# Altium integrated library RET0805_RES-CAP_lib.IntLib: 234 symbols
Pins are listed as number, name and electrical type; pins without a type are passive.

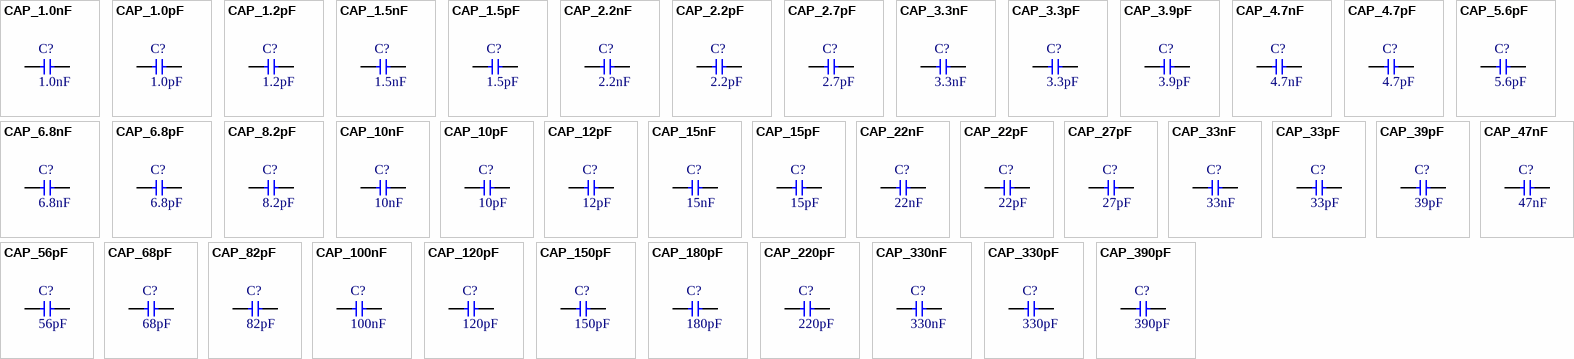
[diagram p0: symbols CAP_1.0nF to CAP_390pF]

## CAP_1.0nF
designator C?, comment 1.0nF
YAGEO Ceramic Capacitor; Voltage: 50; Tolerance: 10%; Characteristic: NPO; Supplier: RET 93-00-95
footprint FP_0805_CAP_060 (0805 kapacitás YAGEO 0.6 mm magas)
pins: 1, 2

## CAP_1.0pF
designator C?, comment 1.0pF
YAGEO Ceramic Capacitor; Voltage: 50; Tolerance: ±0,25pF; Characteristic: NPO; Supplier: RET 93-01-07
footprint FP_0805_CAP_060 (0805 kapacitás YAGEO 0.6 mm magas)
pins: 1, 2

## CAP_1.2pF
designator C?, comment 1.2pF
YAGEO Ceramic Capacitor; Voltage: 50; Tolerance: ±0,25pF; Characteristic: NPO; Supplier: RET 93-01-08
footprint FP_0805_CAP_060 (0805 kapacitás YAGEO 0.6 mm magas)
pins: 1, 2

## CAP_1.5nF
designator C?, comment 1.5nF
YAGEO Ceramic Capacitor; Voltage: 50; Tolerance: 10%; Characteristic: NPO; Supplier: RET 93-00-96
footprint FP_0805_CAP_060 (0805 kapacitás YAGEO 0.6 mm magas)
pins: 1, 2

## CAP_1.5pF
designator C?, comment 1.5pF
YAGEO Ceramic Capacitor; Voltage: 50; Tolerance: ±0,25pF; Characteristic: NPO; Supplier: RET 93-01-09
footprint FP_0805_CAP_060 (0805 kapacitás YAGEO 0.6 mm magas)
pins: 1, 2

## CAP_2.2nF
designator C?, comment 2.2nF
YAGEO Ceramic Capacitor; Voltage: 50; Tolerance: 10%; Characteristic: NPO; Supplier: RET 93-00-97
footprint FP_0805_CAP_060 (0805 kapacitás YAGEO 0.6 mm magas)
pins: 1, 2

## CAP_2.2pF
designator C?, comment 2.2pF
YAGEO Ceramic Capacitor; Voltage: 50; Tolerance: ±0,25pF; Characteristic: NPO; Supplier: RET 93-01-11
footprint FP_0805_CAP_060 (0805 kapacitás YAGEO 0.6 mm magas)
pins: 1, 2

## CAP_2.7pF
designator C?, comment 2.7pF
YAGEO Ceramic Capacitor; Voltage: 50; Tolerance: ±0,25pF; Characteristic: NPO; Supplier: RET 93-01-12
footprint FP_0805_CAP_060 (0805 kapacitás YAGEO 0.6 mm magas)
pins: 1, 2

## CAP_3.3nF
designator C?, comment 3.3nF
YAGEO Ceramic Capacitor; Voltage: 50; Tolerance: 10%; Characteristic: NPO; Supplier: RET 93-00-98
footprint FP_0805_CAP_060 (0805 kapacitás YAGEO 0.6 mm magas)
pins: 1, 2

## CAP_3.3pF
designator C?, comment 3.3pF
YAGEO Ceramic Capacitor; Voltage: 50; Tolerance: ±0,25pF; Characteristic: NPO; Supplier: RET 93-01-13
footprint FP_0805_CAP_060 (0805 kapacitás YAGEO 0.6 mm magas)
pins: 1, 2

## CAP_3.9pF
designator C?, comment 3.9pF
YAGEO Ceramic Capacitor; Voltage: 50; Tolerance: ±0,25pF; Characteristic: NPO; Supplier: RET 93-01-14
footprint FP_0805_CAP_060 (0805 kapacitás YAGEO 0.6 mm magas)
pins: 1, 2

## CAP_4.7nF
designator C?, comment 4.7nF
YAGEO Ceramic Capacitor; Voltage: 50; Tolerance: 10%; Characteristic: NPO; Supplier: RET 93-00-99
footprint FP_0805_CAP_060 (0805 kapacitás YAGEO 0.6 mm magas)
pins: 1, 2

## CAP_4.7pF
designator C?, comment 4.7pF
YAGEO Ceramic Capacitor; Voltage: 50; Tolerance: ±0,25pF; Characteristic: NPO; Supplier: RET 93-01-15
footprint FP_0805_CAP_060 (0805 kapacitás YAGEO 0.6 mm magas)
pins: 1, 2

## CAP_5.6pF
designator C?, comment 5.6pF
YAGEO Ceramic Capacitor; Voltage: 50; Tolerance: ±0,5pF; Characteristic: NPO; Supplier: RET 93-01-16
footprint FP_0805_CAP_060 (0805 kapacitás YAGEO 0.6 mm magas)
pins: 1, 2

## CAP_6.8nF
designator C?, comment 6.8nF
YAGEO Ceramic Capacitor; Voltage: 50; Tolerance: 10%; Characteristic: NPO; Supplier: RET 93-01-00
footprint FP_0805_CAP_060 (0805 kapacitás YAGEO 0.6 mm magas)
pins: 1, 2

## CAP_6.8pF
designator C?, comment 6.8pF
YAGEO Ceramic Capacitor; Voltage: 50; Tolerance: 5%; Characteristic: NPO; Supplier: RET 93-01-17
footprint FP_0805_CAP_060 (0805 kapacitás YAGEO 0.6 mm magas)
pins: 1, 2

## CAP_8.2pF
designator C?, comment 8.2pF
YAGEO Ceramic Capacitor; Voltage: 50; Tolerance: 5%; Characteristic: NPO; Supplier: RET 93-01-18
footprint FP_0805_CAP_060 (0805 kapacitás YAGEO 0.6 mm magas)
pins: 1, 2

## CAP_10nF
designator C?, comment 10nF
YAGEO Ceramic Capacitor; Voltage: 50; Tolerance: 10%; Characteristic: NPO; Supplier: RET 93-01-01
footprint FP_0805_CAP_060 (0805 kapacitás YAGEO 0.6 mm magas)
pins: 1, 2

## CAP_10pF
designator C?, comment 10pF
YAGEO Ceramic Capacitor; Voltage: 50; Tolerance: 5%; Characteristic: NPO; Supplier: RET 93-00-83
footprint FP_0805_CAP_060 (0805 kapacitás YAGEO 0.6 mm magas)
pins: 1, 2

## CAP_12pF
designator C?, comment 12pF
YAGEO Ceramic Capacitor; Voltage: 50; Tolerance: 5%; Characteristic: NPO; Supplier: RET 93-01-92
footprint FP_0805_CAP_060 (0805 kapacitás YAGEO 0.6 mm magas)
pins: 1, 2

## CAP_15nF
designator C?, comment 15nF
YAGEO Ceramic Capacitor; Voltage: 50; Tolerance: 10%; Characteristic: NPO; Supplier: RET 93-01-02
footprint FP_0805_CAP_060 (0805 kapacitás YAGEO 0.6 mm magas)
pins: 1, 2

## CAP_15pF
designator C?, comment 15pF
YAGEO Ceramic Capacitor; Voltage: 50; Tolerance: 5%; Characteristic: NPO; Supplier: RET 93-00-84
footprint FP_0805_CAP_060 (0805 kapacitás YAGEO 0.6 mm magas)
pins: 1, 2

## CAP_22nF
designator C?, comment 22nF
YAGEO Ceramic Capacitor; Voltage: 50; Tolerance: 10%; Characteristic: NPO; Supplier: RET 93-01-03
footprint FP_0805_CAP_060 (0805 kapacitás YAGEO 0.6 mm magas)
pins: 1, 2

## CAP_22pF
designator C?, comment 22pF
YAGEO Ceramic Capacitor; Voltage: 50; Tolerance: 5%; Characteristic: NPO; Supplier: RET 93-00-85
footprint FP_0805_CAP_060 (0805 kapacitás YAGEO 0.6 mm magas)
pins: 1, 2

## CAP_27pF
designator C?, comment 27pF
YAGEO Ceramic Capacitor; Voltage: 50; Tolerance: 5%; Characteristic: NPO; Supplier: RET 93-01-45
footprint FP_0805_CAP_060 (0805 kapacitás YAGEO 0.6 mm magas)
pins: 1, 2

## CAP_33nF
designator C?, comment 33nF
YAGEO Ceramic Capacitor; Voltage: 50; Tolerance: 10%; Characteristic: NPO; Supplier: RET 93-01-04
footprint FP_0805_CAP_085
pins: 1, 2

## CAP_33pF
designator C?, comment 33pF
YAGEO Ceramic Capacitor; Voltage: 50; Tolerance: 5%; Characteristic: NPO; Supplier: RET 93-00-86
footprint FP_0805_CAP_060 (0805 kapacitás YAGEO 0.6 mm magas)
pins: 1, 2

## CAP_39pF
designator C?, comment 39pF
YAGEO Ceramic Capacitor; Voltage: 50; Tolerance: 5%; Characteristic: NPO; Supplier: RET 93-01-93
footprint FP_0805_CAP_060 (0805 kapacitás YAGEO 0.6 mm magas)
pins: 1, 2

## CAP_47nF
designator C?, comment 47nF
YAGEO Ceramic Capacitor; Voltage: 50; Tolerance: 10%; Characteristic: NPO; Supplier: RET 93-01-05
footprint FP_0805_CAP_085
pins: 1, 2

## CAP_56pF
designator C?, comment 56pF
YAGEO Ceramic Capacitor; Voltage: 50; Tolerance: 5; Characteristic: X7R; Supplier: RET 93-04-89
footprint FP_0805_CAP_060 (0805 kapacitás YAGEO 0.6 mm magas)
pins: 1, 2

## CAP_68pF
designator C?, comment 68pF
YAGEO Ceramic Capacitor; Voltage: 50; Tolerance: 5%; Characteristic: X7R; Supplier: RET 93-00-88
footprint FP_0805_CAP_060 (0805 kapacitás YAGEO 0.6 mm magas)
pins: 1, 2

## CAP_82pF
designator C?, comment 82pF
YAGEO Ceramic Capacitor; Voltage: 50; Tolerance: 5%; Characteristic: X7R; Supplier: RET 93-01-63
footprint FP_0805_CAP_060 (0805 kapacitás YAGEO 0.6 mm magas)
pins: 1, 2

## CAP_100nF
designator C?, comment 100nF
YAGEO Ceramic Capacitor; Voltage: 50; Tolerance: 10%; Characteristic: X7R; Supplier: RET 93-04-28
footprint FP_0805_CAP_085
pins: 1, 2

## CAP_120pF
designator C?, comment 120pF
YAGEO Ceramic Capacitor; Voltage: 50; Tolerance: 5%; Characteristic: X7R; Supplier: RET 93-02-95
footprint FP_0805_CAP_060 (0805 kapacitás YAGEO 0.6 mm magas)
pins: 1, 2

## CAP_150pF
designator C?, comment 150pF
YAGEO Ceramic Capacitor; Voltage: 50; Tolerance: 5%; Characteristic: X7R; Supplier: RET 93-00-90
footprint FP_0805_CAP_060 (0805 kapacitás YAGEO 0.6 mm magas)
pins: 1, 2

## CAP_180pF
designator C?, comment 180pF
YAGEO Ceramic Capacitor; Voltage: 50; Tolerance: 5%; Characteristic: X7R; Supplier: RET 93-01-94
footprint FP_0805_CAP_060 (0805 kapacitás YAGEO 0.6 mm magas)
pins: 1, 2

## CAP_220pF
designator C?, comment 220pF
YAGEO Ceramic Capacitor; Voltage: 50; Tolerance: 5%; Characteristic: X7R; Supplier: RET 93-00-91
footprint FP_0805_CAP_060 (0805 kapacitás YAGEO 0.6 mm magas)
pins: 1, 2

## CAP_330nF
designator C?, comment 330nF
YAGEO Ceramic Capacitor; Voltage: 16; Tolerance: 10%; Characteristic: X7R; Supplier: RET 93-03-94
footprint FP_0805_CAP_125
pins: 1, 2

## CAP_330pF
designator C?, comment 330pF
YAGEO Ceramic Capacitor; Voltage: 50; Tolerance: 5%; Characteristic: X7R; Supplier: RET 93-00-92
footprint FP_0805_CAP_060 (0805 kapacitás YAGEO 0.6 mm magas)
pins: 1, 2

## CAP_390pF
designator C?, comment 390pF
YAGEO Ceramic Capacitor; Voltage: 50; Tolerance: 5%; Characteristic: X7R; Supplier: RET 93-01-95
footprint FP_0805_CAP_060 (0805 kapacitás YAGEO 0.6 mm magas)
pins: 1, 2

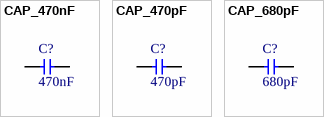
[diagram p1: symbols CAP_470nF to CAP_680pF]

## CAP_470nF
designator C?, comment 470nF
YAGEO Ceramic Capacitor; Voltage: 16; Tolerance: 10±; Characteristic: X7R; Supplier: RET 93-03-95
footprint FP_0805_CAP_125
pins: 1, 2

## CAP_470pF
designator C?, comment 470pF
YAGEO Ceramic Capacitor; Voltage: 50; Tolerance: 5%; Characteristic: X7R; Supplier: RET 93-00-93
footprint FP_0805_CAP_060 (0805 kapacitás YAGEO 0.6 mm magas)
pins: 1, 2

## CAP_680pF
designator C?, comment 680pF
YAGEO Ceramic Capacitor; Voltage: 50; Tolerance: 5%; Characteristic: X7R; Supplier: RET 93-00-94
footprint FP_0805_CAP_060 (0805 kapacitás YAGEO 0.6 mm magas)
pins: 1, 2


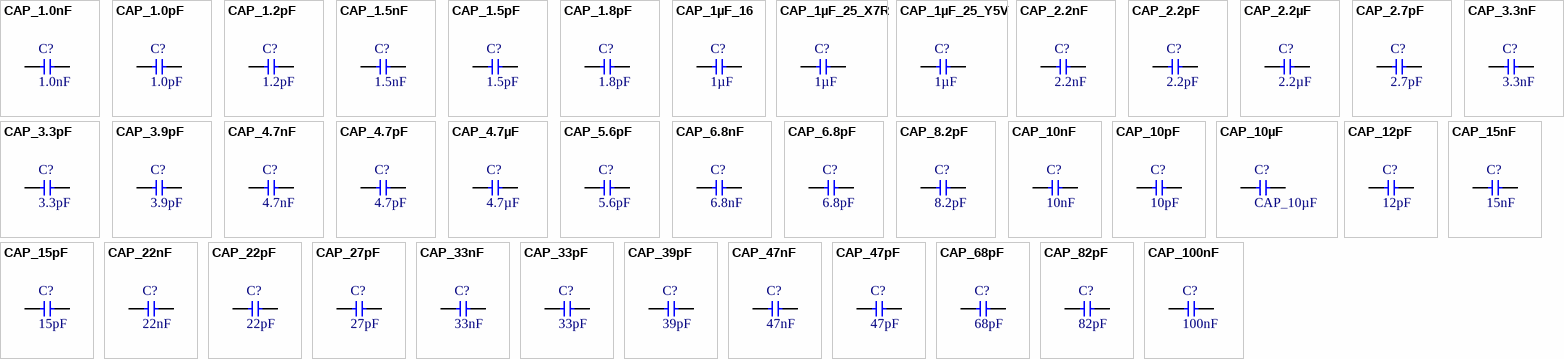
[diagram p2: symbols CAP_1.0nF to CAP_100nF]

## CAP_1.0nF
designator C?, comment 1.0nF
Ceramic Capacitor; Voltage: 50; Tolerance: ±5 %; Characteristic: NPO; num: 30; Supplier: RET 93-02-26
footprint FP_0805_CAP_125
pins: 1, 2

## CAP_1.0pF
designator C?, comment 1.0pF
Ceramic Capacitor; Voltage: 50; Tolerance: ±0.25pF; Characteristic: NPO; num: 1; Supplier: RET 93-01-98
footprint FP_0805_CAP_125
pins: 1, 2

## CAP_1.2pF
designator C?, comment 1.2pF
Ceramic Capacitor; Voltage: 50; Tolerance: ±0.25pF; Characteristic: NPO; num: 2; Supplier: RET 93-01-99
footprint FP_0805_CAP_125
pins: 1, 2

## CAP_1.5nF
designator C?, comment 1.5nF
Ceramic Capacitor; Voltage: 50; Tolerance: ±10 %; Characteristic: X7R; num: 31; Supplier: RET 93-02-27
footprint FP_0805_CAP_125
pins: 1, 2

## CAP_1.5pF
designator C?, comment 1.5pF
Ceramic Capacitor; Voltage: 50; Tolerance: ±0.25pF; Characteristic: NPO; num: 3; Supplier: RET 93-02-00
footprint FP_0805_CAP_125
pins: 1, 2

## CAP_1.8pF
designator C?, comment 1.8pF
Ceramic Capacitor; Voltage: 50; Tolerance: ±0.25pF; Characteristic: NPO; num: 4; Supplier: RET 93-02-01
footprint FP_0805_CAP_125
pins: 1, 2

## CAP_1µF_16
designator C?, comment 1µF
Ceramic Capacitor; Voltage: 16; Tolerance: -20+80%; Characteristic: Y5V; num: 45; Supplier: RET 93-04-23
footprint FP_0805_CAP_145
pins: 1, 2

## CAP_1µF_25_X7R
designator C?, comment 1µF
Ceramic Capacitor; Voltage: 25; Tolerance: ±10%; Characteristic: X7R; num: 46; Supplier: RET 93-04-79
footprint FP_0805_CAP_145
pins: 1, 2

## CAP_1µF_25_Y5V
designator C?, comment 1µF
Ceramic Capacitor; Voltage: 25; Tolerance: -20+80%; Characteristic: Y5V; num: 47; Supplier: RET 93-04-81
footprint FP_0805_CAP_145
pins: 1, 2

## CAP_2.2nF
designator C?, comment 2.2nF
Ceramic Capacitor; Voltage: 50; Tolerance: ±10 %; Characteristic: X7R; num: 32; Supplier: RET 93-02-28
footprint FP_0805_CAP_125
pins: 1, 2

## CAP_2.2pF
designator C?, comment 2.2pF
Ceramic Capacitor; Voltage: 50; Tolerance: ±0.25pF; Characteristic: NPO; num: 5; Supplier: RET 93-02-02
footprint FP_0805_CAP_125
pins: 1, 2

## CAP_2.2µF
designator C?, comment 2.2µF
Ceramic Capacitor; Voltage: 16; Tolerance: -20+80%; Characteristic: Y5V; num: 48; Supplier: RET 93-04-30
footprint FP_0805_CAP_145
pins: 1, 2

## CAP_2.7pF
designator C?, comment 2.7pF
Ceramic Capacitor; Voltage: 50; Tolerance: ±0.25pF; Characteristic: NPO; num: 6; Supplier: RET 93-02-03
footprint FP_0805_CAP_125
pins: 1, 2

## CAP_3.3nF
designator C?, comment 3.3nF
Ceramic Capacitor; Voltage: 50; Tolerance: ±10 %; Characteristic: X7R; num: 33; Supplier: RET 93-02-29
footprint FP_0805_CAP_125
pins: 1, 2

## CAP_3.3pF
designator C?, comment 3.3pF
Ceramic Capacitor; Voltage: 50; Tolerance: ±0.25pF; Characteristic: NPO; num: 7; Supplier: RET 93-02-04
footprint FP_0805_CAP_125
pins: 1, 2

## CAP_3.9pF
designator C?, comment 3.9pF
Ceramic Capacitor; Voltage: 50; Tolerance: ±0.25pF; Characteristic: NPO; num: 8; Supplier: RET 93-02-05
footprint FP_0805_CAP_125
pins: 1, 2

## CAP_4.7nF
designator C?, comment 4.7nF
Ceramic Capacitor; Voltage: 50; Tolerance: ±10 %; Characteristic: X7R; num: 34; Supplier: RET 93-02-30
footprint FP_0805_CAP_125
pins: 1, 2

## CAP_4.7pF
designator C?, comment 4.7pF
Ceramic Capacitor; Voltage: 50; Tolerance: ±0.25pF; Characteristic: NPO; num: 9; Supplier: RET 93-02-06
footprint FP_0805_CAP_125
pins: 1, 2

## CAP_4.7µF
designator C?, comment 4.7µF
Ceramic Capacitor; Voltage: 16; Tolerance: -20+80%; Characteristic: Y5V; num: 49; Supplier: RET 93-04-41
footprint FP_0805_CAP_145
pins: 1, 2

## CAP_5.6pF
designator C?, comment 5.6pF
Ceramic Capacitor; Voltage: 50; Tolerance: ±0.5pF; Characteristic: NPO; num: 10; Supplier: RET 93-02-07
footprint FP_0805_CAP_125
pins: 1, 2

## CAP_6.8nF
designator C?, comment 6.8nF
Ceramic Capacitor; Voltage: 50; Tolerance: ±10 %; Characteristic: X7R; num: 35; Supplier: RET 93-02-31
footprint FP_0805_CAP_125
pins: 1, 2

## CAP_6.8pF
designator C?, comment 6.8pF
Ceramic Capacitor; Voltage: 50; Tolerance: ±5 %; Characteristic: NPO; num: 11; Supplier: RET 93-02-08
footprint FP_0805_CAP_125
pins: 1, 2

## CAP_8.2pF
designator C?, comment 8.2pF
Ceramic Capacitor; Voltage: 50; Tolerance: ±5 %; Characteristic: NPO; num: 12; Supplier: RET 93-02-09
footprint FP_0805_CAP_125
pins: 1, 2

## CAP_10nF
designator C?, comment 10nF
Ceramic Capacitor; Voltage: 50; Tolerance: ±10 %; Characteristic: X7R; num: 36; Supplier: RET 93-02-32
footprint FP_0805_CAP_125
pins: 1, 2

## CAP_10pF
designator C?, comment 10pF
Ceramic Capacitor; Voltage: 50; Tolerance: ±5 %; Characteristic: NPO; num: 13; Supplier: RET 93-02-10
footprint FP_0805_CAP_125
pins: 1, 2

## CAP_10µF
designator C?
Ceramic Capacitor; Voltage: 10; Tolerance: -20+80%; Characteristic: Y5V; num: 50; Supplier: RET 93-04-42
footprint FP_0805_CAP_145
pins: 1, 2

## CAP_12pF
designator C?, comment 12pF
Ceramic Capacitor; Voltage: 50; Tolerance: ±5 %; Characteristic: NPO; num: 14; Supplier: RET 93-02-11
footprint FP_0805_CAP_125
pins: 1, 2

## CAP_15nF
designator C?, comment 15nF
Ceramic Capacitor; Voltage: 50; Tolerance: ±10 %; Characteristic: X7R; num: 37; Supplier: RET 93-02-33
footprint FP_0805_CAP_125
pins: 1, 2

## CAP_15pF
designator C?, comment 15pF
Ceramic Capacitor; Voltage: 50; Tolerance: ±5 %; Characteristic: NPO; num: 15; Supplier: RET 93-02-12
footprint FP_0805_CAP_125
pins: 1, 2

## CAP_22nF
designator C?, comment 22nF
Ceramic Capacitor; Voltage: 50; Tolerance: ±10 %; Characteristic: X7R; num: 38; Supplier: RET 93-02-34
footprint FP_0805_CAP_125
pins: 1, 2

## CAP_22pF
designator C?, comment 22pF
Ceramic Capacitor; Voltage: 50; Tolerance: ±5 %; Characteristic: NPO; num: 16; Supplier: RET 93-02-13
footprint FP_0805_CAP_125
pins: 1, 2

## CAP_27pF
designator C?, comment 27pF
Ceramic Capacitor; Voltage: 50; Tolerance: ±5 %; Characteristic: NPO; num: 17; Supplier: RET 93-02-14
footprint FP_0805_CAP_125
pins: 1, 2

## CAP_33nF
designator C?, comment 33nF
Ceramic Capacitor; Voltage: 50; Tolerance: ±10 %; Characteristic: X7R; num: 39; Supplier: RET 93-02-35
footprint FP_0805_CAP_125
pins: 1, 2

## CAP_33pF
designator C?, comment 33pF
Ceramic Capacitor; Voltage: 50; Tolerance: ±5 %; Characteristic: NPO; num: 18; Supplier: RET 93-02-15
footprint FP_0805_CAP_125
pins: 1, 2

## CAP_39pF
designator C?, comment 39pF
Ceramic Capacitor; Voltage: 50; Tolerance: ±5 %; Characteristic: NPO; num: 19; Supplier: RET 93-02-16
footprint FP_0805_CAP_125
pins: 1, 2

## CAP_47nF
designator C?, comment 47nF
Ceramic Capacitor; Voltage: 50; Tolerance: ±10 %; Characteristic: X7R; num: 40; Supplier: RET 93-02-36
footprint FP_0805_CAP_125
pins: 1, 2

## CAP_47pF
designator C?, comment 47pF
Ceramic Capacitor; Voltage: 50; Tolerance: ±5 %; Characteristic: NPO; num: 20; Supplier: RET 93-02-17
footprint FP_0805_CAP_125
pins: 1, 2

## CAP_68pF
designator C?, comment 68pF
Ceramic Capacitor; Voltage: 50; Tolerance: ±5 %; Characteristic: NPO; num: 21; Supplier: RET 93-02-18
footprint FP_0805_CAP_125
pins: 1, 2

## CAP_82pF
designator C?, comment 82pF
Ceramic Capacitor; Voltage: 50; Tolerance: ±5 %; Characteristic: NPO; num: 22; Supplier: RET 93-02-19
footprint FP_0805_CAP_125
pins: 1, 2

## CAP_100nF
designator C?, comment 100nF
Ceramic Capacitor; Voltage: 50; Tolerance: ±10 %; Characteristic: X7R; num: 41; Supplier: RET 93-02-37
footprint FP_0805_CAP_125
pins: 1, 2

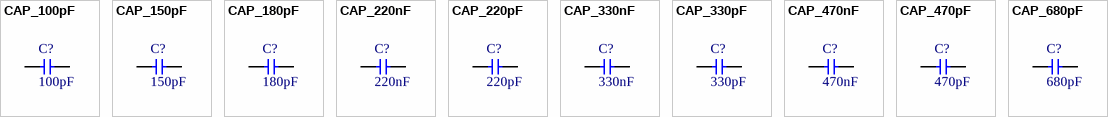
[diagram p3: symbols CAP_100pF to CAP_680pF]

## CAP_100pF
designator C?, comment 100pF
Ceramic Capacitor; Voltage: 50; Tolerance: ±5 %; Characteristic: NPO; num: 23; Supplier: RET 93-02-20
footprint FP_0805_CAP_125
pins: 1, 2

## CAP_150pF
designator C?, comment 150pF
Ceramic Capacitor; Voltage: 50; Tolerance: ±5 %; Characteristic: NPO; num: 24; Supplier: RET 93-02-21
footprint FP_0805_CAP_060 (0805 kapacitás YAGEO 0.6 mm magas)
footprint FP_0805_CAP_125
pins: 1, 2

## CAP_180pF
designator C?, comment 180pF
Ceramic Capacitor; Voltage: 50; Tolerance: ±5 %; Characteristic: NPO; num: 25; Supplier: RET 93-04-37
footprint FP_0805_CAP_125
pins: 1, 2

## CAP_220nF
designator C?, comment 220nF
Ceramic Capacitor; Voltage: 16; Tolerance: ±10 %; Characteristic: X7R; num: 42; Supplier: RET 93-02-38
footprint FP_0805_CAP_060 (0805 kapacitás YAGEO 0.6 mm magas)
footprint FP_0805_CAP_145
pins: 1, 2

## CAP_220pF
designator C?, comment 220pF
Ceramic Capacitor; Voltage: 50; Tolerance: ±5 %; Characteristic: NPO; num: 26; Supplier: RET 93-02-22
footprint FP_0805_CAP_125
pins: 1, 2

## CAP_330nF
designator C?, comment 330nF
Ceramic Capacitor; Voltage: 50; Tolerance: -20+80%; Characteristic: Y5V; num: 43; Supplier: RET 93-03-96
footprint FP_0805_CAP_125
pins: 1, 2

## CAP_330pF
designator C?, comment 330pF
Ceramic Capacitor; Voltage: 50; Tolerance: ±5 %; Characteristic: NPO; num: 27; Supplier: RET 93-02-23
footprint FP_0805_CAP_125
pins: 1, 2

## CAP_470nF
designator C?, comment 470nF
Ceramic Capacitor; Voltage: 25; Tolerance: -20+80%; Characteristic: Y5V; num: 44; Supplier: RET 93-03-97
footprint FP_0805_CAP_125
pins: 1, 2

## CAP_470pF
designator C?, comment 470pF
Ceramic Capacitor; Voltage: 50; Tolerance: ±5 %; Characteristic: NPO; num: 28; Supplier: RET 93-02-24
footprint FP_0805_CAP_125
pins: 1, 2

## CAP_680pF
designator C?, comment 680pF
Ceramic Capacitor; Voltage: 50; Tolerance: ±5 %; Characteristic: NPO; num: 29; Supplier: RET 93-02-25
footprint FP_0805_CAP_125
pins: 1, 2


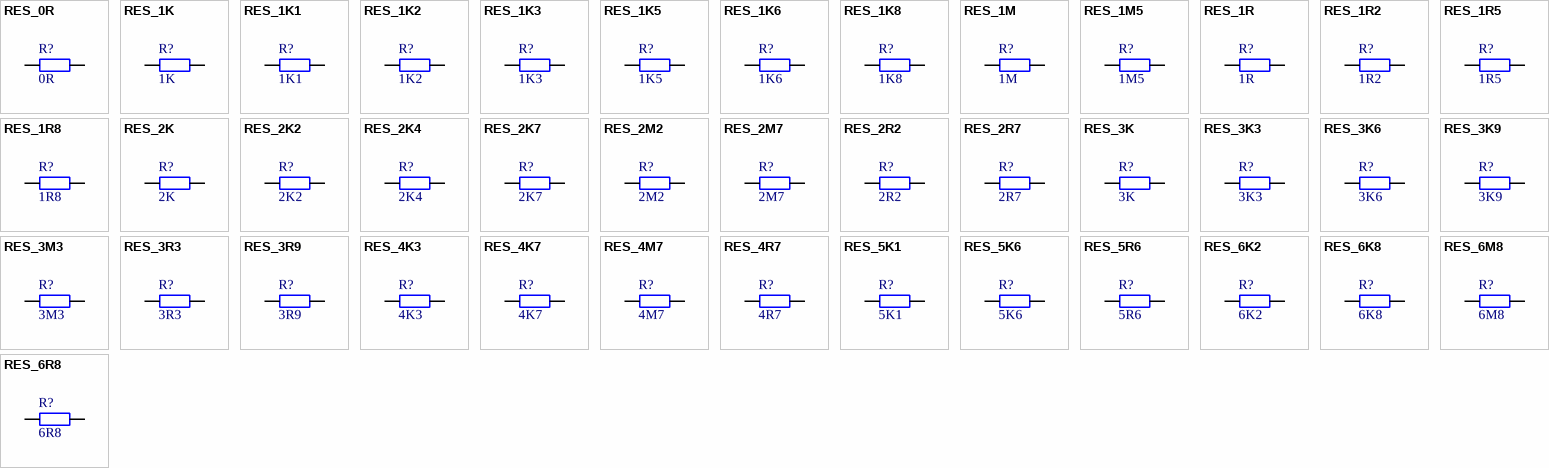
[diagram p4: symbols RES_0R to RES_6R8]

## RES_0R
designator R?, comment 0R
YAGEO SMD RESISTOR; Power: 125 mW; Tolerance: 5%; Supplier: RET 92-02-48
footprint FP_0805_RES (0805 ellenállás)
pins: 1, 2

## RES_1K
designator R?, comment 1K
YAGEO SMD RESISTOR; Power: 125 mW; Tolerance: 1%; Supplier: RET 96-02-06
footprint FP_0805_RES (0805 ellenállás)
pins: 1, 2

## RES_1K1
designator R?, comment 1K1
YAGEO SMD RESISTOR; Power: 125 mW; Tolerance: 1%; Supplier: RET 96-02-07
footprint FP_0805_RES (0805 ellenállás)
pins: 1, 2

## RES_1K2
designator R?, comment 1K2
YAGEO SMD RESISTOR; Power: 125 mW; Tolerance: 1%; Supplier: RET 96-02-08
footprint FP_0805_RES (0805 ellenállás)
pins: 1, 2

## RES_1K3
designator R?, comment 1K3
YAGEO SMD RESISTOR; Power: 125 mW; Tolerance: 1%; Supplier: RET 96-02-09
footprint FP_0805_RES (0805 ellenállás)
pins: 1, 2

## RES_1K5
designator R?, comment 1K5
YAGEO SMD RESISTOR; Power: 125 mW; Tolerance: 1%; Supplier: RET 96-02-10
footprint FP_0805_RES (0805 ellenállás)
pins: 1, 2

## RES_1K6
designator R?, comment 1K6
YAGEO SMD RESISTOR; Power: 125 mW; Tolerance: 1%; Supplier: RET 96-02-11
footprint FP_0805_RES (0805 ellenállás)
pins: 1, 2

## RES_1K8
designator R?, comment 1K8
YAGEO SMD RESISTOR; Power: 125 mW; Tolerance: 1%; Supplier: RET 96-02-12
footprint FP_0805_RES (0805 ellenállás)
pins: 1, 2

## RES_1M
designator R?, comment 1M
YAGEO SMD RESISTOR; Power: 125 mW; Tolerance: 1%; Supplier: RET 96-02-80
footprint FP_0805_RES (0805 ellenállás)
pins: 1, 2

## RES_1M5
designator R?, comment 1M5
YAGEO SMD RESISTOR; Power: 125 mW; Tolerance: 1%; Supplier: RET 96-02-81
footprint FP_0805_RES (0805 ellenállás)
pins: 1, 2

## RES_1R
designator R?, comment 1R
YAGEO SMD RESISTOR; Power: 125 mW; Tolerance: 1%; Supplier: RET 96-01-48
footprint FP_0805_RES (0805 ellenállás)
pins: 1, 2

## RES_1R2
designator R?, comment 1R2
YAGEO SMD RESISTOR; Power: 125 mW; Tolerance: 1%; Supplier: RET 96-01-49
footprint FP_0805_RES (0805 ellenállás)
pins: 1, 2

## RES_1R5
designator R?, comment 1R5
YAGEO SMD RESISTOR; Power: 125 mW; Tolerance: 1%; Supplier: RET 96-01-50
footprint FP_0805_RES (0805 ellenállás)
pins: 1, 2

## RES_1R8
designator R?, comment 1R8
YAGEO SMD RESISTOR; Power: 125 mW; Tolerance: 1%; Supplier: RET 96-01-51
footprint FP_0805_RES (0805 ellenállás)
pins: 1, 2

## RES_2K
designator R?, comment 2K
YAGEO SMD RESISTOR; Power: 125 mW; Tolerance: 1%; Supplier: RET 96-02-13
footprint FP_0805_RES (0805 ellenállás)
pins: 1, 2

## RES_2K2
designator R?, comment 2K2
YAGEO SMD RESISTOR; Power: 125 mW; Tolerance: 1%; Supplier: RET 96-02-14
footprint FP_0805_RES (0805 ellenállás)
pins: 1, 2

## RES_2K4
designator R?, comment 2K4
YAGEO SMD RESISTOR; Power: 125 mW; Tolerance: 1%; Supplier: RET 96-02-15
footprint FP_0805_RES (0805 ellenállás)
pins: 1, 2

## RES_2K7
designator R?, comment 2K7
YAGEO SMD RESISTOR; Power: 125 mW; Tolerance: 1%; Supplier: RET 96-02-16
footprint FP_0805_RES (0805 ellenállás)
pins: 1, 2

## RES_2M2
designator R?, comment 2M2
YAGEO SMD RESISTOR; Power: 125 mW; Tolerance: 1%; Supplier: RET 96-02-82
footprint FP_0805_RES (0805 ellenállás)
pins: 1, 2

## RES_2M7
designator R?, comment 2M7
YAGEO SMD RESISTOR; Power: 125 mW; Tolerance: 1%; Supplier: RET 96-05-23
footprint FP_0805_RES (0805 ellenállás)
pins: 1, 2

## RES_2R2
designator R?, comment 2R2
YAGEO SMD RESISTOR; Power: 125 mW; Tolerance: 1%; Supplier: RET 96-01-52
footprint FP_0805_RES (0805 ellenállás)
pins: 1, 2

## RES_2R7
designator R?, comment 2R7
YAGEO SMD RESISTOR; Power: 125 mW; Tolerance: 1%; Supplier: RET 96-01-53
footprint FP_0805_RES (0805 ellenállás)
pins: 1, 2

## RES_3K
designator R?, comment 3K
YAGEO SMD RESISTOR; Power: 125 mW; Tolerance: 1%; Supplier: RET 96-02-17
footprint FP_0805_RES (0805 ellenállás)
pins: 1, 2

## RES_3K3
designator R?, comment 3K3
YAGEO SMD RESISTOR; Power: 125 mW; Tolerance: 1%; Supplier: RET 96-02-18
footprint FP_0805_RES (0805 ellenállás)
pins: 1, 2

## RES_3K6
designator R?, comment 3K6
YAGEO SMD RESISTOR; Power: 125 mW; Tolerance: 1%; Supplier: RET 96-02-19
footprint FP_0805_RES (0805 ellenállás)
pins: 1, 2

## RES_3K9
designator R?, comment 3K9
YAGEO SMD RESISTOR; Power: 125 mW; Tolerance: 1%; Supplier: RET 96-02-20
footprint FP_0805_RES (0805 ellenállás)
pins: 1, 2

## RES_3M3
designator R?, comment 3M3
YAGEO SMD RESISTOR; Power: 125 mW; Tolerance: 1%; Supplier: RET 96-02-83
footprint FP_0805_RES (0805 ellenállás)
pins: 1, 2

## RES_3R3
designator R?, comment 3R3
YAGEO SMD RESISTOR; Power: 125 mW; Tolerance: 1%; Supplier: RET 96-01-54
footprint FP_0805_RES (0805 ellenállás)
pins: 1, 2

## RES_3R9
designator R?, comment 3R9
YAGEO SMD RESISTOR; Power: 125 mW; Tolerance: 1%; Supplier: RET 96-01-55
footprint FP_0805_RES (0805 ellenállás)
pins: 1, 2

## RES_4K3
designator R?, comment 4K3
YAGEO SMD RESISTOR; Power: 125 mW; Tolerance: 1%; Supplier: RET 96-02-21
footprint FP_0805_RES (0805 ellenállás)
pins: 1, 2

## RES_4K7
designator R?, comment 4K7
YAGEO SMD RESISTOR; Power: 125 mW; Tolerance: 1%; Supplier: RET 96-02-22
footprint FP_0805_RES (0805 ellenállás)
pins: 1, 2

## RES_4M7
designator R?, comment 4M7
YAGEO SMD RESISTOR; Power: 125 mW; Tolerance: 1%; Supplier: RET 96-02-84
footprint FP_0805_RES (0805 ellenállás)
pins: 1, 2

## RES_4R7
designator R?, comment 4R7
YAGEO SMD RESISTOR; Power: 125 mW; Tolerance: 1%; Supplier: RET 96-01-56
footprint FP_0805_RES (0805 ellenállás)
pins: 1, 2

## RES_5K1
designator R?, comment 5K1
YAGEO SMD RESISTOR; Power: 125 mW; Tolerance: 1%; Supplier: RET 96-02-23
footprint FP_0805_RES (0805 ellenállás)
pins: 1, 2

## RES_5K6
designator R?, comment 5K6
YAGEO SMD RESISTOR; Power: 125 mW; Tolerance: 1%; Supplier: RET 96-02-24
footprint FP_0805_RES (0805 ellenállás)
pins: 1, 2

## RES_5R6
designator R?, comment 5R6
YAGEO SMD RESISTOR; Power: 125 mW; Tolerance: 1%; Supplier: RET 96-01-57
footprint FP_0805_RES (0805 ellenállás)
pins: 1, 2

## RES_6K2
designator R?, comment 6K2
YAGEO SMD RESISTOR; Power: 125 mW; Tolerance: 1%; Supplier: RET 96-02-25
footprint FP_0805_RES (0805 ellenállás)
pins: 1, 2

## RES_6K8
designator R?, comment 6K8
YAGEO SMD RESISTOR; Power: 125 mW; Tolerance: 1%; Supplier: RET 96-02-26
footprint FP_0805_RES (0805 ellenállás)
pins: 1, 2

## RES_6M8
designator R?, comment 6M8
YAGEO SMD RESISTOR; Power: 125 mW; Tolerance: 1%; Supplier: RET 96-02-85
footprint FP_0805_RES (0805 ellenállás)
pins: 1, 2

## RES_6R8
designator R?, comment 6R8
YAGEO SMD RESISTOR; Power: 125 mW; Tolerance: 1%; Supplier: RET 96-01-58
footprint FP_0805_RES (0805 ellenállás)
pins: 1, 2

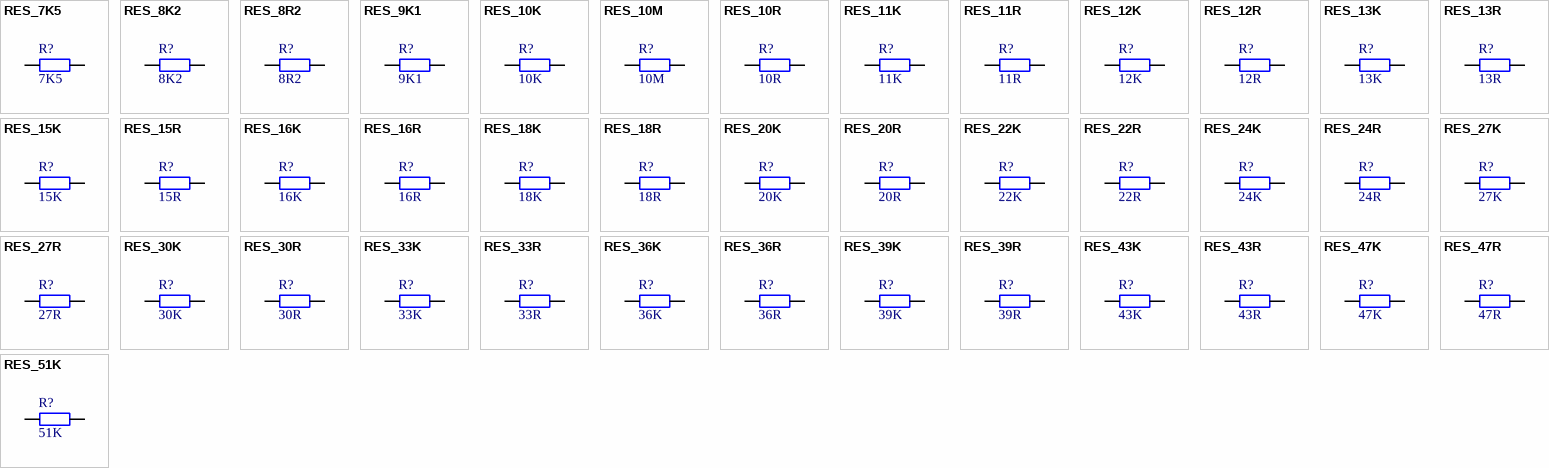
[diagram p5: symbols RES_7K5 to RES_51K]

## RES_7K5
designator R?, comment 7K5
YAGEO SMD RESISTOR; Power: 125 mW; Tolerance: 1%; Supplier: RET 96-02-27
footprint FP_0805_RES (0805 ellenállás)
pins: 1, 2

## RES_8K2
designator R?, comment 8K2
YAGEO SMD RESISTOR; Power: 125 mW; Tolerance: 1%; Supplier: RET 96-02-28
footprint FP_0805_RES (0805 ellenállás)
pins: 1, 2

## RES_8R2
designator R?, comment 8R2
YAGEO SMD RESISTOR; Power: 125 mW; Tolerance: 1%; Supplier: RET 96-01-59
footprint FP_0805_RES (0805 ellenállás)
pins: 1, 2

## RES_9K1
designator R?, comment 9K1
YAGEO SMD RESISTOR; Power: 125 mW; Tolerance: 1%; Supplier: RET 96-02-29
footprint FP_0805_RES (0805 ellenállás)
pins: 1, 2

## RES_10K
designator R?, comment 10K
YAGEO SMD RESISTOR; Power: 125 mW; Tolerance: 1%; Supplier: RET 96-02-32
footprint FP_0805_RES (0805 ellenállás)
pins: 1, 2

## RES_10M
designator R?, comment 10M
YAGEO SMD RESISTOR; Power: 125 mW; Tolerance: 1%; Supplier: RET 96-02-86
footprint FP_0805_RES (0805 ellenállás)
pins: 1, 2

## RES_10R
designator R?, comment 10R
YAGEO SMD RESISTOR; Power: 125 mW; Tolerance: 1%; Supplier: RET 96-01-60
footprint FP_0805_RES (0805 ellenállás)
pins: 1, 2

## RES_11K
designator R?, comment 11K
YAGEO SMD RESISTOR; Power: 125 mW; Tolerance: 1%; Supplier: RET 96-02-33
footprint FP_0805_RES (0805 ellenállás)
pins: 1, 2

## RES_11R
designator R?, comment 11R
YAGEO SMD RESISTOR; Power: 125 mW; Tolerance: 1%; Supplier: RET 96-01-61
footprint FP_0805_RES (0805 ellenállás)
pins: 1, 2

## RES_12K
designator R?, comment 12K
YAGEO SMD RESISTOR; Power: 125 mW; Tolerance: 1%; Supplier: RET 96-02-34
footprint FP_0805_RES (0805 ellenállás)
pins: 1, 2

## RES_12R
designator R?, comment 12R
YAGEO SMD RESISTOR; Power: 125 mW; Tolerance: 1%; Supplier: RET 96-01-62
footprint FP_0805_RES (0805 ellenállás)
pins: 1, 2

## RES_13K
designator R?, comment 13K
YAGEO SMD RESISTOR; Power: 125 mW; Tolerance: 1%; Supplier: RET 96-02-35
footprint FP_0805_RES (0805 ellenállás)
pins: 1, 2

## RES_13R
designator R?, comment 13R
YAGEO SMD RESISTOR; Power: 125 mW; Tolerance: 1%; Supplier: RET 96-01-63
footprint FP_0805_RES (0805 ellenállás)
pins: 1, 2

## RES_15K
designator R?, comment 15K
YAGEO SMD RESISTOR; Power: 125 mW; Tolerance: 1%; Supplier: RET 96-02-36
footprint FP_0805_RES (0805 ellenállás)
pins: 1, 2

## RES_15R
designator R?, comment 15R
YAGEO SMD RESISTOR; Power: 125 mW; Tolerance: 1%; Supplier: RET 96-01-64
footprint FP_0805_RES (0805 ellenállás)
pins: 1, 2

## RES_16K
designator R?, comment 16K
YAGEO SMD RESISTOR; Power: 125 mW; Tolerance: 1%; Supplier: RET 96-02-37
footprint FP_0805_RES (0805 ellenállás)
pins: 1, 2

## RES_16R
designator R?, comment 16R
YAGEO SMD RESISTOR; Power: 125 mW; Tolerance: 1%; Supplier: RET 96-01-65
footprint FP_0805_RES (0805 ellenállás)
pins: 1, 2

## RES_18K
designator R?, comment 18K
YAGEO SMD RESISTOR; Power: 125 mW; Tolerance: 1%; Supplier: RET 96-02-38
footprint FP_0805_RES (0805 ellenállás)
pins: 1, 2

## RES_18R
designator R?, comment 18R
YAGEO SMD RESISTOR; Power: 125 mW; Tolerance: 1%; Supplier: RET 96-01-66
footprint FP_0805_RES (0805 ellenállás)
pins: 1, 2

## RES_20K
designator R?, comment 20K
YAGEO SMD RESISTOR; Power: 125 mW; Tolerance: 1%; Supplier: RET 96-02-39
footprint FP_0805_RES (0805 ellenállás)
pins: 1, 2

## RES_20R
designator R?, comment 20R
YAGEO SMD RESISTOR; Power: 125 mW; Tolerance: 1%; Supplier: RET 96-01-67
footprint FP_0805_RES (0805 ellenállás)
pins: 1, 2

## RES_22K
designator R?, comment 22K
YAGEO SMD RESISTOR; Power: 125 mW; Tolerance: 1%; Supplier: RET 96-02-40
footprint FP_0805_RES (0805 ellenállás)
pins: 1, 2

## RES_22R
designator R?, comment 22R
YAGEO SMD RESISTOR; Power: 125 mW; Tolerance: 1%; Supplier: RET 96-01-68
footprint FP_0805_RES (0805 ellenállás)
pins: 1, 2

## RES_24K
designator R?, comment 24K
YAGEO SMD RESISTOR; Power: 125 mW; Tolerance: 1%; Supplier: RET 96-02-41
footprint FP_0805_RES (0805 ellenállás)
pins: 1, 2

## RES_24R
designator R?, comment 24R
YAGEO SMD RESISTOR; Power: 125 mW; Tolerance: 1%; Supplier: RET 96-01-69
footprint FP_0805_RES (0805 ellenállás)
pins: 1, 2

## RES_27K
designator R?, comment 27K
YAGEO SMD RESISTOR; Power: 125 mW; Tolerance: 1%; Supplier: RET 96-02-42
footprint FP_0805_RES (0805 ellenállás)
pins: 1, 2

## RES_27R
designator R?, comment 27R
YAGEO SMD RESISTOR; Power: 125 mW; Tolerance: 1%; Supplier: RET 96-01-70
footprint FP_0805_RES (0805 ellenállás)
pins: 1, 2

## RES_30K
designator R?, comment 30K
YAGEO SMD RESISTOR; Power: 125 mW; Tolerance: 1%; Supplier: RET 96-02-43
footprint FP_0805_RES (0805 ellenállás)
pins: 1, 2

## RES_30R
designator R?, comment 30R
YAGEO SMD RESISTOR; Power: 125 mW; Tolerance: 1%; Supplier: RET 96-01-71
footprint FP_0805_RES (0805 ellenállás)
pins: 1, 2

## RES_33K
designator R?, comment 33K
YAGEO SMD RESISTOR; Power: 125 mW; Tolerance: 1%; Supplier: RET 96-02-44
footprint FP_0805_RES (0805 ellenállás)
pins: 1, 2

## RES_33R
designator R?, comment 33R
YAGEO SMD RESISTOR; Power: 125 mW; Tolerance: 1%; Supplier: RET 96-01-72
footprint FP_0805_RES (0805 ellenállás)
pins: 1, 2

## RES_36K
designator R?, comment 36K
YAGEO SMD RESISTOR; Power: 125 mW; Tolerance: 1%; Supplier: RET 96-02-45
footprint FP_0805_RES (0805 ellenállás)
pins: 1, 2

## RES_36R
designator R?, comment 36R
YAGEO SMD RESISTOR; Power: 125 mW; Tolerance: 1%; Supplier: RET 96-01-73
footprint FP_0805_RES (0805 ellenállás)
pins: 1, 2

## RES_39K
designator R?, comment 39K
YAGEO SMD RESISTOR; Power: 125 mW; Tolerance: 1%; Supplier: RET 96-02-46
footprint FP_0805_RES (0805 ellenállás)
pins: 1, 2

## RES_39R
designator R?, comment 39R
YAGEO SMD RESISTOR; Power: 125 mW; Tolerance: 1%; Supplier: RET 96-01-74
footprint FP_0805_RES (0805 ellenállás)
pins: 1, 2

## RES_43K
designator R?, comment 43K
YAGEO SMD RESISTOR; Power: 125 mW; Tolerance: 1%; Supplier: RET 96-02-47
footprint FP_0805_RES (0805 ellenállás)
pins: 1, 2

## RES_43R
designator R?, comment 43R
YAGEO SMD RESISTOR; Power: 125 mW; Tolerance: 1%; Supplier: RET 96-01-75
footprint FP_0805_RES (0805 ellenállás)
pins: 1, 2

## RES_47K
designator R?, comment 47K
YAGEO SMD RESISTOR; Power: 125 mW; Tolerance: 1%; Supplier: RET 96-02-48
footprint FP_0805_RES (0805 ellenállás)
pins: 1, 2

## RES_47R
designator R?, comment 47R
YAGEO SMD RESISTOR; Power: 125 mW; Tolerance: 1%; Supplier: RET 96-01-76
footprint FP_0805_RES (0805 ellenállás)
pins: 1, 2

## RES_51K
designator R?, comment 51K
YAGEO SMD RESISTOR; Power: 125 mW; Tolerance: 1%; Supplier: RET 96-02-49
footprint FP_0805_RES (0805 ellenállás)
pins: 1, 2

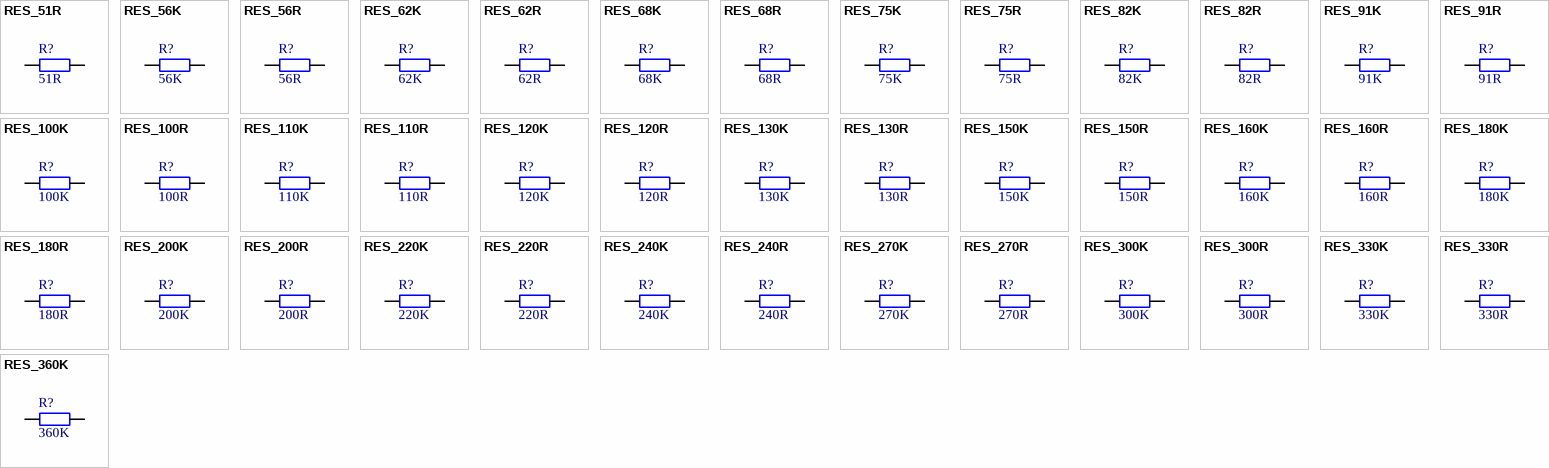
[diagram p6: symbols RES_51R to RES_360K]

## RES_51R
designator R?, comment 51R
YAGEO SMD RESISTOR; Power: 125 mW; Tolerance: 1%; Supplier: RET 96-01-77
footprint FP_0805_RES (0805 ellenállás)
pins: 1, 2

## RES_56K
designator R?, comment 56K
YAGEO SMD RESISTOR; Power: 125 mW; Tolerance: 1%; Supplier: RET 96-02-50
footprint FP_0805_RES (0805 ellenállás)
pins: 1, 2

## RES_56R
designator R?, comment 56R
YAGEO SMD RESISTOR; Power: 125 mW; Tolerance: 1%; Supplier: RET 96-01-78
footprint FP_0805_RES (0805 ellenállás)
pins: 1, 2

## RES_62K
designator R?, comment 62K
YAGEO SMD RESISTOR; Power: 125 mW; Tolerance: 1%; Supplier: RET 96-02-51
footprint FP_0805_RES (0805 ellenállás)
pins: 1, 2

## RES_62R
designator R?, comment 62R
YAGEO SMD RESISTOR; Power: 125 mW; Tolerance: 1%; Supplier: RET 96-01-79
footprint FP_0805_RES (0805 ellenállás)
pins: 1, 2

## RES_68K
designator R?, comment 68K
YAGEO SMD RESISTOR; Power: 125 mW; Tolerance: 1%; Supplier: RET 96-02-52
footprint FP_0805_RES (0805 ellenállás)
pins: 1, 2

## RES_68R
designator R?, comment 68R
YAGEO SMD RESISTOR; Power: 125 mW; Tolerance: 1%; Supplier: RET 96-01-80
footprint FP_0805_RES (0805 ellenállás)
pins: 1, 2

## RES_75K
designator R?, comment 75K
YAGEO SMD RESISTOR; Power: 125 mW; Tolerance: 1%; Supplier: RET 96-02-53
footprint FP_0805_RES (0805 ellenállás)
pins: 1, 2

## RES_75R
designator R?, comment 75R
YAGEO SMD RESISTOR; Power: 125 mW; Tolerance: 1%; Supplier: RET 96-01-81
footprint FP_0805_RES (0805 ellenállás)
pins: 1, 2

## RES_82K
designator R?, comment 82K
YAGEO SMD RESISTOR; Power: 125 mW; Tolerance: 1%; Supplier: RET 96-02-54
footprint FP_0805_RES (0805 ellenállás)
pins: 1, 2

## RES_82R
designator R?, comment 82R
YAGEO SMD RESISTOR; Power: 125 mW; Tolerance: 1%; Supplier: RET 96-01-82
footprint FP_0805_RES (0805 ellenállás)
pins: 1, 2

## RES_91K
designator R?, comment 91K
YAGEO SMD RESISTOR; Power: 125 mW; Tolerance: 1%; Supplier: RET 96-02-55
footprint FP_0805_RES (0805 ellenállás)
pins: 1, 2

## RES_91R
designator R?, comment 91R
YAGEO SMD RESISTOR; Power: 125 mW; Tolerance: 1%; Supplier: RET 96-02-30
footprint FP_0805_RES (0805 ellenállás)
pins: 1, 2

## RES_100K
designator R?, comment 100K
YAGEO SMD RESISTOR; Power: 125 mW; Tolerance: 1%; Supplier: RET 96-02-56
footprint FP_0805_RES (0805 ellenállás)
pins: 1, 2

## RES_100R
designator R?, comment 100R
YAGEO SMD RESISTOR; Power: 125 mW; Tolerance: 1%; Supplier: RET 96-01-83
footprint FP_0805_RES (0805 ellenállás)
pins: 1, 2

## RES_110K
designator R?, comment 110K
YAGEO SMD RESISTOR; Power: 125 mW; Tolerance: 1%; Supplier: RET 96-02-57
footprint FP_0805_RES (0805 ellenállás)
pins: 1, 2

## RES_110R
designator R?, comment 110R
YAGEO SMD RESISTOR; Power: 125 mW; Tolerance: 1%; Supplier: RET 96-01-84
footprint FP_0805_RES (0805 ellenállás)
pins: 1, 2

## RES_120K
designator R?, comment 120K
YAGEO SMD RESISTOR; Power: 125 mW; Tolerance: 1%; Supplier: RET 96-02-58
footprint FP_0805_RES (0805 ellenállás)
pins: 1, 2

## RES_120R
designator R?, comment 120R
YAGEO SMD RESISTOR; Power: 125 mW; Tolerance: 1%; Supplier: RET 96-01-85
footprint FP_0805_RES (0805 ellenállás)
pins: 1, 2

## RES_130K
designator R?, comment 130K
YAGEO SMD RESISTOR; Power: 125 mW; Tolerance: 1%; Supplier: RET 96-02-59
footprint FP_0805_RES (0805 ellenállás)
pins: 1, 2

## RES_130R
designator R?, comment 130R
YAGEO SMD RESISTOR; Power: 125 mW; Tolerance: 1%; Supplier: RET 96-01-86
footprint FP_0805_RES (0805 ellenállás)
pins: 1, 2

## RES_150K
designator R?, comment 150K
YAGEO SMD RESISTOR; Power: 125 mW; Tolerance: 1%; Supplier: RET 96-02-60
footprint FP_0805_RES (0805 ellenállás)
pins: 1, 2

## RES_150R
designator R?, comment 150R
YAGEO SMD RESISTOR; Power: 125 mW; Tolerance: 1%; Supplier: RET 96-01-87
footprint FP_0805_RES (0805 ellenállás)
pins: 1, 2

## RES_160K
designator R?, comment 160K
YAGEO SMD RESISTOR; Power: 125 mW; Tolerance: 1%; Supplier: RET 96-02-61
footprint FP_0805_RES (0805 ellenállás)
pins: 1, 2

## RES_160R
designator R?, comment 160R
YAGEO SMD RESISTOR; Power: 125 mW; Tolerance: 1%; Supplier: RET 96-01-88
footprint FP_0805_RES (0805 ellenállás)
pins: 1, 2

## RES_180K
designator R?, comment 180K
YAGEO SMD RESISTOR; Power: 125 mW; Tolerance: 1%; Supplier: RET 96-02-62
footprint FP_0805_RES (0805 ellenállás)
pins: 1, 2

## RES_180R
designator R?, comment 180R
YAGEO SMD RESISTOR; Power: 125 mW; Tolerance: 1%; Supplier: RET 96-01-89
footprint FP_0805_RES (0805 ellenállás)
pins: 1, 2

## RES_200K
designator R?, comment 200K
YAGEO SMD RESISTOR; Power: 125 mW; Tolerance: 1%; Supplier: RET 96-02-63
footprint FP_0805_RES (0805 ellenállás)
pins: 1, 2

## RES_200R
designator R?, comment 200R
YAGEO SMD RESISTOR; Power: 125 mW; Tolerance: 1%; Supplier: RET 96-01-90
footprint FP_0805_RES (0805 ellenállás)
pins: 1, 2

## RES_220K
designator R?, comment 220K
YAGEO SMD RESISTOR; Power: 125 mW; Tolerance: 1%; Supplier: RET 96-02-64
footprint FP_0805_RES (0805 ellenállás)
pins: 1, 2

## RES_220R
designator R?, comment 220R
YAGEO SMD RESISTOR; Power: 125 mW; Tolerance: 1%; Supplier: RET 96-01-91
footprint FP_0805_RES (0805 ellenállás)
pins: 1, 2

## RES_240K
designator R?, comment 240K
YAGEO SMD RESISTOR; Power: 125 mW; Tolerance: 1%; Supplier: RET 96-02-65
footprint FP_0805_RES (0805 ellenállás)
pins: 1, 2

## RES_240R
designator R?, comment 240R
YAGEO SMD RESISTOR; Power: 125 mW; Tolerance: 1%; Supplier: RET 96-01-92
footprint FP_0805_RES (0805 ellenállás)
pins: 1, 2

## RES_270K
designator R?, comment 270K
YAGEO SMD RESISTOR; Power: 125 mW; Tolerance: 1%; Supplier: RET 96-02-66
footprint FP_0805_RES (0805 ellenállás)
pins: 1, 2

## RES_270R
designator R?, comment 270R
YAGEO SMD RESISTOR; Power: 125 mW; Tolerance: 1%; Supplier: RET 96-01-93
footprint FP_0805_RES (0805 ellenállás)
pins: 1, 2

## RES_300K
designator R?, comment 300K
YAGEO SMD RESISTOR; Power: 125 mW; Tolerance: 1%; Supplier: RET 96-02-67
footprint FP_0805_RES (0805 ellenállás)
pins: 1, 2

## RES_300R
designator R?, comment 300R
YAGEO SMD RESISTOR; Power: 125 mW; Tolerance: 1%; Supplier: RET 96-01-94
footprint FP_0805_RES (0805 ellenállás)
pins: 1, 2

## RES_330K
designator R?, comment 330K
YAGEO SMD RESISTOR; Power: 125 mW; Tolerance: 1%; Supplier: RET 96-02-68
footprint FP_0805_RES (0805 ellenállás)
pins: 1, 2

## RES_330R
designator R?, comment 330R
YAGEO SMD RESISTOR; Power: 125 mW; Tolerance: 1%; Supplier: RET 96-01-95
footprint FP_0805_RES (0805 ellenállás)
pins: 1, 2

## RES_360K
designator R?, comment 360K
YAGEO SMD RESISTOR; Power: 125 mW; Tolerance: 1%; Supplier: RET 96-02-69
footprint FP_0805_RES (0805 ellenállás)
pins: 1, 2

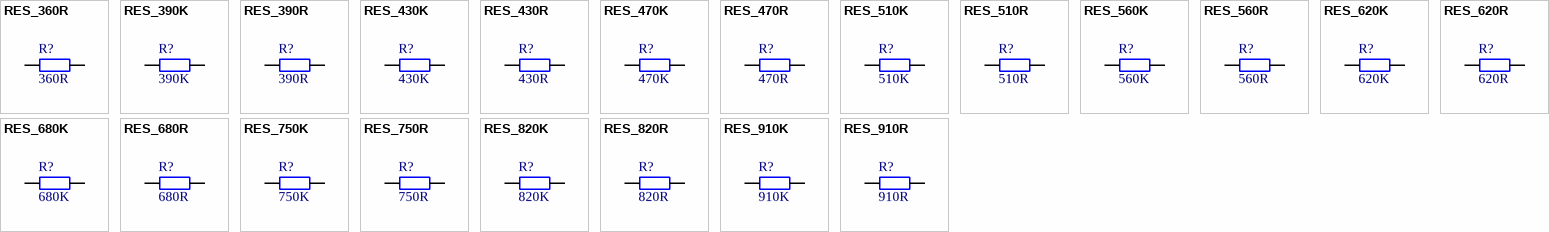
[diagram p7: symbols RES_360R to RES_910R]

## RES_360R
designator R?, comment 360R
YAGEO SMD RESISTOR; Power: 125 mW; Tolerance: 1%; Supplier: RET 96-01-96
footprint FP_0805_RES (0805 ellenállás)
pins: 1, 2

## RES_390K
designator R?, comment 390K
YAGEO SMD RESISTOR; Power: 125 mW; Tolerance: 1%; Supplier: RET 96-02-70
footprint FP_0805_RES (0805 ellenállás)
pins: 1, 2

## RES_390R
designator R?, comment 390R
YAGEO SMD RESISTOR; Power: 125 mW; Tolerance: 1%; Supplier: RET 96-01-97
footprint FP_0805_RES (0805 ellenállás)
pins: 1, 2

## RES_430K
designator R?, comment 430K
YAGEO SMD RESISTOR; Power: 125 mW; Tolerance: 1%; Supplier: RET 96-02-71
footprint FP_0805_RES (0805 ellenállás)
pins: 1, 2

## RES_430R
designator R?, comment 430R
YAGEO SMD RESISTOR; Power: 125 mW; Tolerance: 1%; Supplier: RET 96-01-98
footprint FP_0805_RES (0805 ellenállás)
pins: 1, 2

## RES_470K
designator R?, comment 470K
YAGEO SMD RESISTOR; Power: 125 mW; Tolerance: 1%; Supplier: RET 96-02-72
footprint FP_0805_RES (0805 ellenállás)
pins: 1, 2

## RES_470R
designator R?, comment 470R
YAGEO SMD RESISTOR; Power: 125 mW; Tolerance: 1%; Supplier: RET 96-01-99
footprint FP_0805_RES (0805 ellenállás)
pins: 1, 2

## RES_510K
designator R?, comment 510K
YAGEO SMD RESISTOR; Power: 125 mW; Tolerance: 1%; Supplier: RET 96-02-73
footprint FP_0805_RES (0805 ellenállás)
pins: 1, 2

## RES_510R
designator R?, comment 510R
YAGEO SMD RESISTOR; Power: 125 mW; Tolerance: 1%; Supplier: RET 96-02-00
footprint FP_0805_RES (0805 ellenállás)
pins: 1, 2

## RES_560K
designator R?, comment 560K
YAGEO SMD RESISTOR; Power: 125 mW; Tolerance: 1%; Supplier: RET 96-02-74
footprint FP_0805_RES (0805 ellenállás)
pins: 1, 2

## RES_560R
designator R?, comment 560R
YAGEO SMD RESISTOR; Power: 125 mW; Tolerance: 1%; Supplier: RET 96-02-01
footprint FP_0805_RES (0805 ellenállás)
pins: 1, 2

## RES_620K
designator R?, comment 620K
YAGEO SMD RESISTOR; Power: 125 mW; Tolerance: 1%; Supplier: RET 96-02-75
footprint FP_0805_RES (0805 ellenállás)
pins: 1, 2

## RES_620R
designator R?, comment 620R
YAGEO SMD RESISTOR; Power: 125 mW; Tolerance: 1%; Supplier: RET 96-02-02
footprint FP_0805_RES (0805 ellenállás)
pins: 1, 2

## RES_680K
designator R?, comment 680K
YAGEO SMD RESISTOR; Power: 125 mW; Tolerance: 1%; Supplier: RET 96-02-76
footprint FP_0805_RES (0805 ellenállás)
pins: 1, 2

## RES_680R
designator R?, comment 680R
YAGEO SMD RESISTOR; Power: 125 mW; Tolerance: 1%; Supplier: RET 96-02-03
footprint FP_0805_RES (0805 ellenállás)
pins: 1, 2

## RES_750K
designator R?, comment 750K
YAGEO SMD RESISTOR; Power: 125 mW; Tolerance: 1%; Supplier: RET 96-02-77
footprint FP_0805_RES (0805 ellenállás)
pins: 1, 2

## RES_750R
designator R?, comment 750R
YAGEO SMD RESISTOR; Power: 125 mW; Tolerance: 1%; Supplier: RET 96-02-04
footprint FP_0805_RES (0805 ellenállás)
pins: 1, 2

## RES_820K
designator R?, comment 820K
YAGEO SMD RESISTOR; Power: 125 mW; Tolerance: 1%; Supplier: RET 96-02-78
footprint FP_0805_RES (0805 ellenállás)
pins: 1, 2

## RES_820R
designator R?, comment 820R
YAGEO SMD RESISTOR; Power: 125 mW; Tolerance: 1%; Supplier: RET 96-02-05
footprint FP_0805_RES (0805 ellenállás)
pins: 1, 2

## RES_910K
designator R?, comment 910K
YAGEO SMD RESISTOR; Power: 125 mW; Tolerance: 1%; Supplier: RET 96-02-79
footprint FP_0805_RES (0805 ellenállás)
pins: 1, 2

## RES_910R
designator R?, comment 910R
YAGEO SMD RESISTOR; Power: 125 mW; Tolerance: 1%; Supplier: RET 96-02-31
footprint FP_0805_RES (0805 ellenállás)
pins: 1, 2